# Altium footprint library N20Motor_01.PcbLib: 2 footprints
Each footprint in its own frame and in the unit in brackets; x right, y up, seen from the top. Pads: shape width x height; smd on the part's side, far side on the other; paste and mask are expansions set on the pad; w line width, h text height; cw(c..) or ccw(c..) is an arc to the next point about the centre after c.
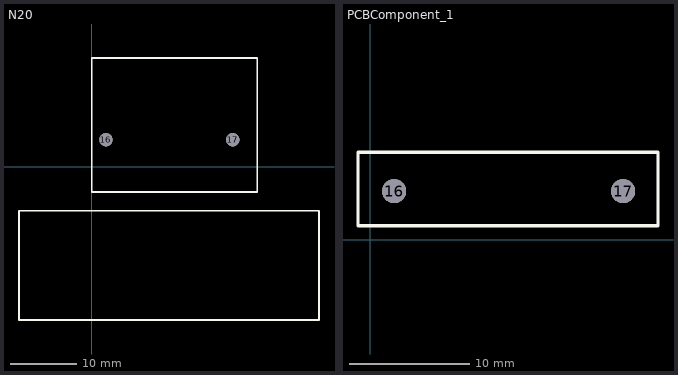
[diagram p0: the footprints below, top view; thin cyan lines are the x and y axes]

## N20 [mil]
pads (2):
  round 79 hole 79: 16(83,158) 17(831,158)
Top Overlay:
  lines w5: 980,177.16 980,180
  lines w10: -430,-905 1340,-905 1340,-260 -430,-260 -430,-905 ; 0,-150 975,-150 975,640 0,640 0,-150

## PCBComponent_1 [mil]
pads (2):
  round 79 hole 79: 16(78,158) 17(826,158)
Top Overlay:
  lines w10: -40,45 940,45 940,285 -40,285 -40,45